# Altium schematic symbol library 74HC4040.SchLib: 1 symbol
Pins are listed as number, name and electrical type; pins without a type are passive.

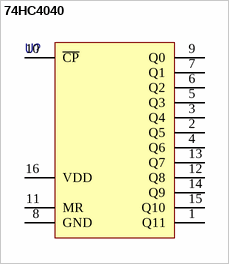
[diagram p0: symbol 74HC4040]

## 74HC4040
designator U?
pins: 1 Q11, 2 Q5, 3 Q4, 4 Q6, 5 Q3, 6 Q2, 7 Q1, 8 GND, 9 Q0, 10 ~{CP}, 11 MR, 12 Q8, 13 Q7, 14 Q9, 15 Q10, 16 VDD (power)